# Altium schematic symbol library AltiumLive.SchLib: 1 symbol
Pins are listed as number, name and electrical type; pins without a type are passive.

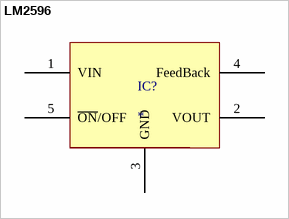
[diagram p0: symbol LM2596]

## LM2596
designator IC?
footprint LM2596
pins: 1 VIN, 2 VOUT, 3 GND, 4 FeedBack, 5 ~{ON}/OFF